# EAGLE library part USB-B (library Mechanical)
AMP 787780 USB-B connector or equivalent
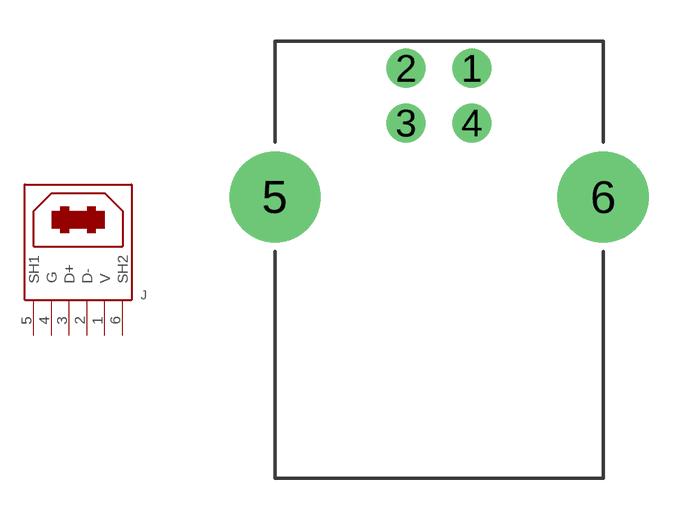
[diagram p31: symbol with the pads of USB-B; footprint USB-B]

Designator prefix J

## USB-B  [USB-B]
1  V
2  D-
3  D+
4  G
5  SH1
6  SH2

## Footprint USB-B (pad centres in mm)
drill 0.914: 1 1.2,4.7; 2 -1.2,4.7; 3 -1.2,2.7; 4 1.2,2.7
drill 2.311: 5 -6,0; 6 6,0